# EAGLE library part SIM (library LARS_409_MODULES)
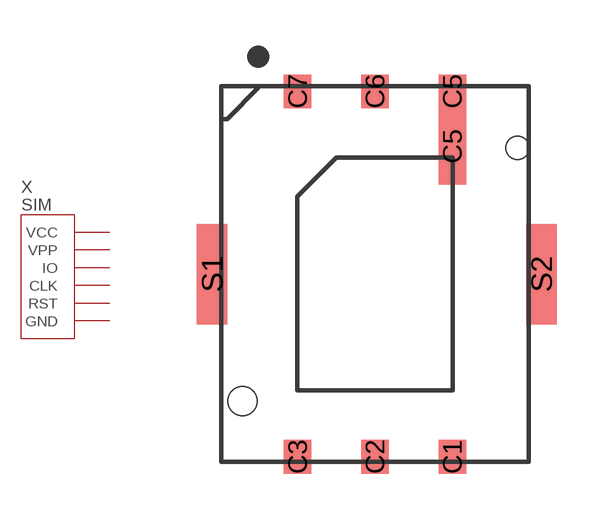
[diagram p14: symbol with the pads of NANO-SIM_SIMPLE; footprint NANO-SIM_SIMPLE]

Designator prefix X

## SIM  [NANO-SIM_SIMPLE]
C1  VCC
C2  RST
C3  CLK
C5  GND
C6  VPP
C7  IO
S1  GND
S2  GND
С5  GND

## Footprint NANO-SIM_SIMPLE (pad centres in mm)
smd 0.9 x 1.1: C1 2.53,-5.98; C2 0,-5.98; C3 -2.53,-5.98; C5 2.53,5.98; C6 0,5.98; C7 -2.53,5.98
smd 1 x 3.29: S1 -5.32,0; S2 5.45,0
smd 0.9 x 2.5: С5 2.53,4.18
hole 0.95 at -4.33,-4.16
hole 0.75 at 4.67,4.14